# Altium footprint library Drivers_PCBLIB.PcbLib: 11 footprints
Each footprint in its own frame and in the unit in brackets; x right, y up, seen from the top. Pads: shape width x height; smd on the part's side, far side on the other; paste and mask are expansions set on the pad; w line width, h text height; cw(c..) or ccw(c..) is an arc to the next point about the centre after c.
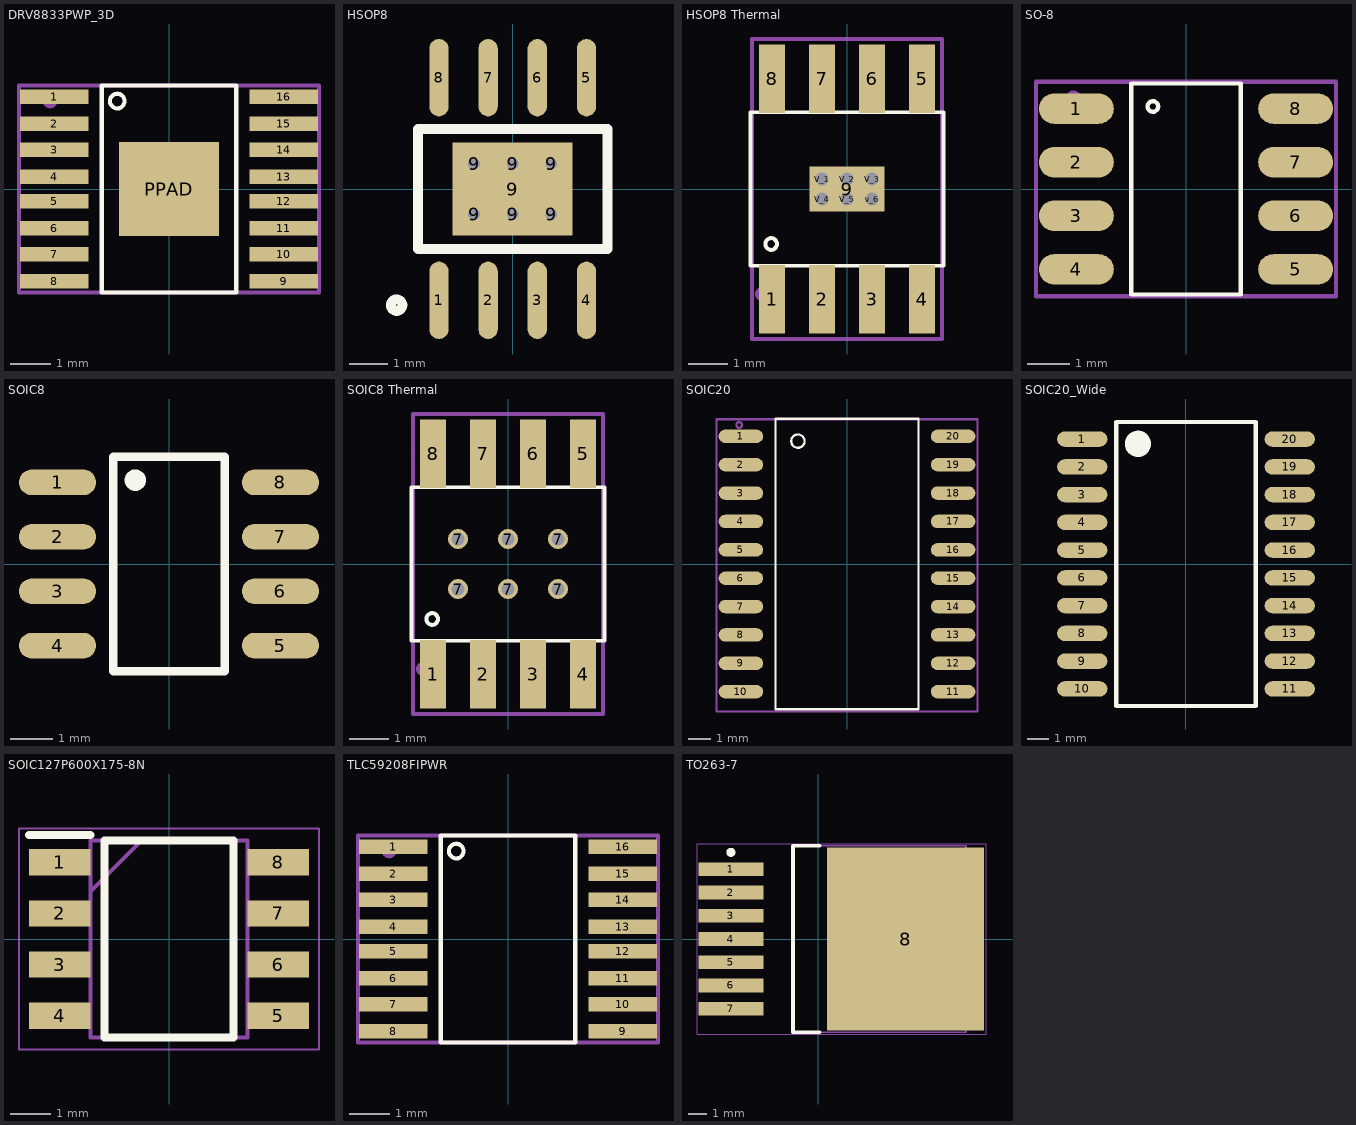
[diagram p0: the footprints below, top view; thin cyan lines are the x and y axes]

## DRV8833PWP_3D [mil] "Texas Instruments DRV8833 Motor Driver"
pads (17):
  rect 66x14 smd mask+2.76: 1(-111,89) 2(-111,63) 3(-111,38) 4(-111,12) 5(-111,-12) 6(-111,-38) 7(-111,-63) 8(-111,-89) 9(111,-89) 10(111,-63) 11(111,-38) 12(111,-12) 13(111,12) 14(111,38) 15(111,63) 16(111,89)
  rect 96.85x90.94 smd: PPAD(0,0)
Top Overlay:
  circle w3.94: c-50,85 r7.07
  lines w3.94: -65,-100 -65,100 65,100 65,-100 -65,-100
Mechanical 13:
  circle w3.94: c-115,85 r5
Mechanical 15:
  lines w3.94: -145,-100 -145,100 145,100 145,-100 -145,-100
3D body "TSSOP_16.STEP": height 44.29, standoff -2.95, extent -129.92,-97.44 129.92,99.41

## HSOP8 [mm]
pads (15):
  oval 0.5x2 smd: 1(-1.905,-2.875) 2(-0.635,-2.875) 3(0.635,-2.875) 4(1.905,-2.875) 5(1.905,2.875) 6(0.635,2.875) 7(-0.635,2.875) 8(-1.905,2.875)
  round 0.6 hole 0.3: 9(-1,-0.65) 9(-1,0.65) 9(0,-0.65) 9(0,0.65) 9(1,-0.65) 9(1,0.65)
  rect 3.1x2.4 smd: 9(0,0)
Top Overlay:
  circle w0.254: c-3,-3 r0.149
  lines w0.254: -2.45,-1.55 -2.45,1.55 2.45,1.55 2.45,-1.55 -2.45,-1.55
3D body "HSOP-8.STEP": height 1.43, standoff -0.02, extent -2.45,-2.899 2.45,3.099

## HSOP8 Thermal [mm] "with thermalpad"
pads (15):
  rect 0.65x1.75 smd: 1(-1.905,-2.8) 2(-0.635,-2.8) 3(0.635,-2.8) 4(1.905,-2.8) 5(1.905,2.8) 6(0.635,2.8) 7(-0.635,2.8) 8(-1.905,2.8)
  rect 1.905x1.143 smd: 9(0,0)
  round 0.508 hole 0.33: V_1(-0.635,0.254) V_2(0,0.254) V_3(0.635,0.254) V_4(-0.635,-0.254) V_5(0,-0.254) v_6(0.635,-0.254)
Top Overlay:
  circle w0.1: c-1.927,-1.397 r0.149
  lines w0.1: -2.45,-1.95 -2.45,1.95 2.45,1.95 2.45,-1.95 -2.45,-1.95
Mechanical 13:
  circle w0.1: c-2.159,-2.667 r0.127
Mechanical 15:
  lines w0.1: -2.413,-3.81 -2.413,3.81 2.413,3.81 2.413,-3.81 -2.413,-3.81
3D body "SOIC8.STEP": height 1.75, standoff 0, extent -2.45,-3 2.45,3

## SO-8 [mm] "8-Pin Plastic Narrow Body Small Outline Integrated Circuit 1.27 mm Pitch, IPC Medium Density"
height 1.76
pads (8):
  oval 1.78x0.72 smd: 1(-2.6,1.905) 2(-2.6,0.635) 3(-2.6,-0.635) 4(-2.6,-1.905) 5(2.6,-1.905) 6(2.6,-0.635) 7(2.6,0.635) 8(2.6,1.905)
Top Overlay:
  circle w0.1: c-0.785,1.956 r0.125
  lines w0.1: -1.3,-2.5 -1.3,2.5 1.3,2.5 1.3,-2.5 -1.3,-2.5
Mechanical 13:
  circle w0.1: c-2.667,2.159 r0.127
Mechanical 15:
  lines w0.1: -3.556,-2.54 3.556,-2.54 3.556,2.54 -3.556,2.54 -3.556,-2.54
3D body "soic8.step": height 1.88, standoff -0.03, extent -3.093,-2.489 3.246,2.515

## SOIC8 [mm] "8-Pin Plastic Narrow Body Small Outline Integrated Circuit 1.27 mm Pitch, IPC Medium Density"
height 1.76
pads (8):
  oval 1.8x0.6 smd: 1(-2.6,1.905) 2(-2.6,0.635) 3(-2.6,-0.635) 4(-2.6,-1.905) 5(2.6,-1.905) 6(2.6,-0.635) 7(2.6,0.635) 8(2.6,1.905)
Top Overlay:
  circle w0.25: c-0.785,1.956 r0.125
  lines w0.2: -1.3,-2.5 -1.3,2.5 1.3,2.5 1.3,-2.5 -1.3,-2.5
3D body "soic8.step": height 1.88, standoff -0.03, extent -3.093,-2.489 3.246,2.515

## SOIC8 Thermal [mm] "with thermalpad"
pads (14):
  rect 0.65x1.75 smd: 1(-1.905,-2.8) 2(-0.635,-2.8) 3(0.635,-2.8) 4(1.905,-2.8) 5(1.905,2.8) 6(0.635,2.8) 7(-0.635,2.8) 8(-1.905,2.8)
  round 0.508 hole 0.33: 7(-1.27,-0.635) 7(-1.27,0.635) 7(0,-0.635) 7(0,0.635) 7(1.27,-0.635) 7(1.27,0.635)
Top Overlay:
  circle w0.1: c-1.927,-1.397 r0.149
  lines w0.1: -2.45,-1.95 -2.45,1.95 2.45,1.95 2.45,-1.95 -2.45,-1.95
Mechanical 13:
  circle w0.1: c-2.159,-2.667 r0.127
Mechanical 15:
  lines w0.1: -2.413,-3.81 -2.413,3.81 2.413,3.81 2.413,-3.81 -2.413,-3.81
3D body "SOIC8.STEP": height 1.75, standoff 0, extent -2.45,-3 2.45,3

## SOIC20 [mm] "20-Pin Small Outline Integrated Circuit 1.27 mm Pitch, IPC Low Density"
height 2.68
pads (20):
  oval 2x0.6 smd: 1(-4.75,5.715) 2(-4.75,4.445) 3(-4.75,3.175) 4(-4.75,1.905) 5(-4.75,0.635) 6(-4.75,-0.635) 7(-4.75,-1.905) 8(-4.75,-3.175) 9(-4.75,-4.445) 10(-4.75,-5.715) 11(4.75,-5.715) 12(4.75,-4.445) 13(4.75,-3.175) 14(4.75,-1.905) 15(4.75,-0.635) 16(4.75,0.635) 17(4.75,1.905) 18(4.75,3.175) 19(4.75,4.445) 20(4.75,5.715)
Top Overlay:
  circle w0.1: c-2.2,5.5 r0.3
  lines w0.1: -3.2,-6.5 -3.2,6.5 3.2,6.5 3.2,-6.5 -3.2,-6.5
Mechanical 13:
  circle w0.1: c-4.826,6.223 r0.127
Mechanical 15:
  lines w0.1: -5.842,-6.604 5.842,-6.604 5.842,6.477 -5.842,6.477 -5.842,-6.604
3D body "SOIC20.STEP": height 2.57, standoff -0.03, extent -5.19,-6.525 5.41,6.475

## SOIC20_Wide [mm] "20-Pin Small Outline Integrated Circuit 1.27 mm Pitch, IPC Low Density"
height 2.68
pads (20):
  oval 2.3x0.7 smd: 1(-4.75,5.715) 2(-4.75,4.445) 3(-4.75,3.175) 4(-4.75,1.905) 5(-4.75,0.635) 6(-4.75,-0.635) 7(-4.75,-1.905) 8(-4.75,-3.175) 9(-4.75,-4.445) 10(-4.75,-5.715) 11(4.75,-5.715) 12(4.75,-4.445) 13(4.75,-3.175) 14(4.75,-1.905) 15(4.75,-0.635) 16(4.75,0.635) 17(4.75,1.905) 18(4.75,3.175) 19(4.75,4.445) 20(4.75,5.715)
Top Overlay:
  circle w0.6: c-2.2,5.5 r0.3
  lines w0.2: -3.2,-6.5 3.2,-6.5 3.2,6.5 -3.2,6.5 -3.2,-6.5
3D body "SOIC20.STEP": height 2.57, standoff -0.03, extent -5.19,-6.525 5.41,6.475

## SOIC127P600X175-8N [mm]
pads (8):
  rect 1.525x0.65 smd: 1(-2.712,1.905) 2(-2.712,0.635) 3(-2.712,-0.635) 4(-2.712,-1.905) 5(2.712,-1.905) 6(2.712,-0.635) 7(2.712,0.635) 8(2.712,1.905)
Top Overlay:
  lines w0.2: -3.475,2.58 -1.95,2.58 ; -1.6,-2.45 1.6,-2.45 1.6,2.45 -1.6,2.45 -1.6,-2.45
Mechanical 13:
  lines w0.1: -1.95,1.18 -0.68,2.45 ; -1.95,-2.45 1.95,-2.45 1.95,2.45 -1.95,2.45 -1.95,-2.45
Mechanical 15:
  lines w0.05: -3.725,-2.75 3.725,-2.75 3.725,2.75 -3.725,2.75 -3.725,-2.75
3D body "NE555DR.stp": height 1.75, standoff 0, extent -3,-2.45 3,2.45

## TLC59208FIPWR [mil]
height 47.24
pads (16):
  rect 66x14 smd mask+2.76: 1(-111,89) 2(-111,63) 3(-111,38) 4(-111,12) 5(-111,-12) 6(-111,-38) 7(-111,-63) 8(-111,-89) 9(111,-89) 10(111,-63) 11(111,-38) 12(111,-12) 13(111,12) 14(111,38) 15(111,63) 16(111,89)
Top Overlay:
  circle w3.94: c-50,85 r7.07
  lines w3.94: -65,-100 -65,100 65,100 65,-100 -65,-100
Mechanical 13:
  circle w3.94: c-115,85 r5
Mechanical 15:
  lines w3.94: -145,-100 -145,100 145,100 145,-100 -145,-100
Mechanical 29:
  text ".Designator" at -4.92,-5.91 h60
3D body "TSSOP_16.STEP": height 44.29, standoff -2.95, extent -129.92,-97.44 129.92,99.41

## TO263-7 [mm]
pads (8):
  rect 3.55x0.75 smd: 1(-4.775,3.81) 2(-4.775,2.54) 3(-4.775,1.27) 4(-4.775,0) 5(-4.775,-1.27) 6(-4.775,-2.54) 7(-4.775,-3.81)
  rect 8.6x10 smd: 8(4.775,0)
Top Overlay:
  circle w0.25: c-4.775,4.735 r0.125
  lines w0.2: 0.075,-5.1 -1.375,-5.1 -1.375,5.1 0.075,5.1
Mechanical 13:
  lines w0.1: -1.375,-5.1 8.075,-5.1 8.075,5.1 -1.375,5.1 -1.375,-5.1
Mechanical 15:
  lines w0.05: -6.625,-5.2 9.175,-5.2 9.175,5.2 -6.625,5.2 -6.625,-5.2
  lines w0.1: 0.775,0 1.775,0 ; 1.275,-0.5 1.275,0.5
3D body "TO263-7-2.stp": height 4.22, standoff 0, extent -6.096,-5.038 8.955,4.784